# Altium footprint library BlocBatteries.PcbLib: 15 footprints
Each footprint in its own frame and in the unit in brackets; x right, y up, seen from the top. Pads: shape width x height; smd on the part's side, far side on the other; paste and mask are expansions set on the pad; w line width, h text height; cw(c..) or ccw(c..) is an arc to the next point about the centre after c.
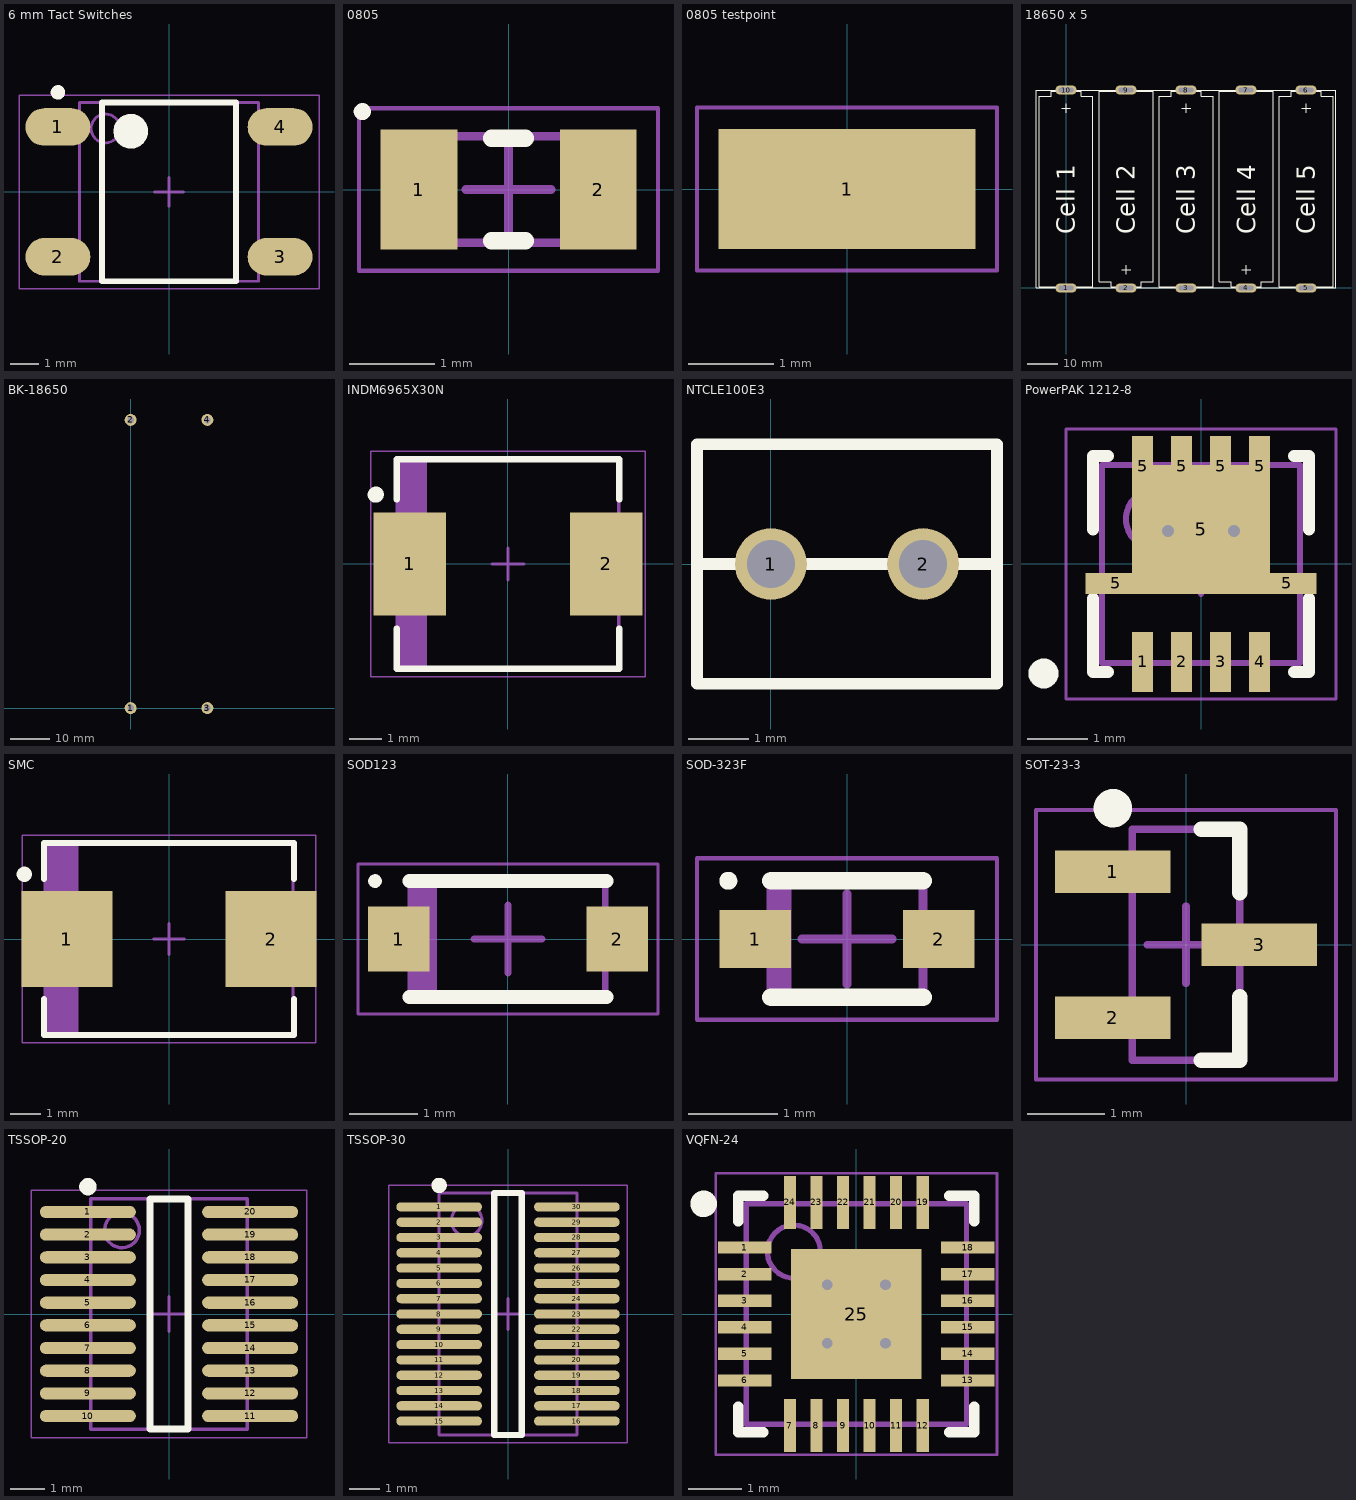
[diagram p0: the footprints below, top view; thin cyan lines are the x and y axes]

## 6 mm Tact Switches [mm] "SOP, 4-Leads, Body 6,20x6,20mm, Pitch 4,50mm, IPC Medium Density"
height 3.5
pads (4):
  oval 2.25x1.3 smd: 1(-3.85,2.25) 2(-3.85,-2.25) 3(3.85,-2.25) 4(3.85,2.25)
Top Overlay:
  circle w0.25: c-3.85,3.45 r0.125
  circle w0.6: c-1.325,2.1 r0.3
  lines w0.2: -2.325,-3.1 -2.325,3.1 2.325,3.1 2.325,-3.1 -2.325,-3.1
Mechanical 13:
  circle w0.1: c-2.2,2.2 r0.5
  lines w0.1: -3.1,-3.1 -3.1,3.1 3.1,3.1 3.1,-3.1 -3.1,-3.1
Mechanical 15:
  lines w0.05: -5.2,-3.35 -5.2,3.35 5.2,3.35 5.2,-3.35 -5.2,-3.35
  lines w0.1: -0.5,0 0.5,0 ; 0,-0.5 0,0.5
3D body: height 3.5, standoff 0.15, extent -3.1,-3.1 3.1,3.1

## 0805 [mm] "Chip Capacitor, 2-Leads, Body 2,00x1,25mm, IPC Medium Density"
height 0.8
pads (2):
  rect 0.9x1.4 smd: 1(-1.05,0) 2(1.05,0)
Top Overlay:
  circle w0.1: c-1.712,0.912 r0.05
  lines w0.2: -0.2,-0.6 0.2,-0.6 ; -0.2,0.6 0.2,0.6
Mechanical 13:
  lines w0.1: -1,-0.625 -1,0.625 1,0.625 1,-0.625 -1,-0.625
Mechanical 15:
  lines w0.05: -1.75,-0.95 -1.75,0.95 1.75,0.95 1.75,-0.95 -1.75,-0.95
  lines w0.1: -0.5,0 0.5,0 ; 0,-0.5 0,0.5
3D body: height 0.8, standoff 0, extent -0.6,-0.625 0.6,0.625
3D body: height 0.8, standoff 0, extent -1,-0.625 -0.6,0.625
3D body: height 0.8, standoff 0, extent 0.6,-0.625 1,0.625

## 0805 testpoint [mm] "Chip Capacitor, 2-Leads, Body 2,00x1,25mm, IPC Medium Density"
height 0.8
pads (1):
  rect 3x1.4 smd: 1(0,0)
Top Overlay:
  lines w0.2: -0.2,-0.6 0.2,-0.6 ; -0.2,0.6 0.2,0.6
Mechanical 13:
  lines w0.1: -1,-0.625 1,-0.625 1,0.625 -1,0.625 -1,-0.625
Mechanical 15:
  lines w0.05: -1.75,-0.95 1.75,-0.95 1.75,0.95 -1.75,0.95 -1.75,-0.95
  lines w0.1: -0.5,0 0.5,0 ; 0,-0.5 0,0.5
3D body: height 0.8, standoff 0, extent 0.6,-0.625 1,0.625
3D body: height 0.8, standoff 0, extent -1,-0.625 -0.6,0.625
3D body: height 0.8, standoff 0.6, extent -0.6,-0.625 0.6,0.625

## 18650 x 5 [mm] "5 cell 18650 li-ion batt"
height 22
pads (10):
  oval 7x3 hole 1.5 slot 5 at 0 deg: 1(0,0) 2(20,0) 3(40,0) 4(60,0) 5(80,0) 6(80,66) 7(60,66) 8(40,66) 9(20,66) 10(0,66)
Top Overlay:
  lines w0.2: -1.5,60 1.5,60 ; 0,58.5 0,61.5 ; 18.5,6 21.5,6 ; 20,4.5 20,7.5 ; 38.5,60 41.5,60 ; 40,58.5 40,61.5 ; 58.5,6 61.5,6 ; 60,4.5 60,7.5 ; 78.5,60 81.5,60 ; 80,58.5 80,61.5 ; -10,0 90,0 90,66 -10,66 -10,0 ; -9,0.5 -9,6.5 -9,64 -5,64 -5,65.5 5,65.5 5,64 9,64 9,0.5 -9,0.5 ; 11,2 11,65.5 29,65.5 29,59.5 29,2 25,2 25,0.5 15,0.5 15,2 11,2 ; 31,0.5 49,0.5 49,64 45,64 45,65.5 35,65.5 35,64 31,64 31,6.5 31,0.5 ; 51,2 51,65.5 69,65.5 69,59.5 69,2 65,2 65,0.5 55,0.5 55,2 51,2 ; 71,0.5 89,0.5 89,64 85,64 85,65.5 75,65.5 75,64 71,64 71,6.5 71,0.5
  text "Cell 5" at 83,18 h6
  text "Cell 4" at 63,18 h6
  text "Cell 3" at 43,18 h6
  text "Cell 2" at 23,18 h6
  text "Cell 1" at 3,18 h6
3D body: height 24.37, standoff 6.17, extent 70.9,0.35 89.1,65.5
3D body: height 24.37, standoff 6.17, extent 30.9,0.35 49.1,65.5
3D body: height 24.37, standoff 6.17, extent 50.9,0.5 69.1,65.65
3D body: height 24.37, standoff 6.17, extent 10.9,0.5 29.1,65.65
3D body: height 24.37, standoff 6.17, extent -9.1,0.35 9.1,65.5

## BK-18650 [mm] "2cell holder for 18650 li-ion batt"
height 22
pads (4):
  round 3 hole 1.7: 1(0,0) 2(0,72.5) 3(19.3,0) 4(19.3,72.5)
3D body: height 24.37, standoff 6.17, extent -8.929,2.858 9.271,68.008
3D body: height 24.37, standoff 6.17, extent 10.922,2.731 29.122,67.881
3D body: height 21, standoff 0, extent -10.594,-1.651 30.406,74.349

## INDM6965X30N [mm] "Molded Inductor, 2-Leads, Body 6,86x6,47mm, IPC Medium Density"
height 3
pads (2):
  rect 2.25x3.2 smd: 1(-3.05,0) 2(3.05,0)
Top Overlay:
  circle w0.25: c-4.1,2.15 r0.125
  lines w0.2: -3.45,-2 -3.45,-3.25 3.45,-3.25 3.45,-2 ; -3.45,2 -3.45,3.25 3.45,3.25 3.45,2
Mechanical 13:
  rectangle: -3.43,-3.235 -2.507,3.235
  lines w0.1: -3.43,-3.235 -3.43,3.235 3.43,3.235 3.43,-3.235 -3.43,-3.235
Mechanical 15:
  lines w0.05: -4.25,-3.5 -4.25,3.5 4.25,3.5 4.25,-3.5 -4.25,-3.5
  lines w0.1: -0.5,0 0.5,0 ; 0,-0.5 0,0.5
3D body: height 3, standoff 0, extent -3.43,-3.235 3.43,3.235

## NTCLE100E3 [mm]
pads (2):
  round 1.2 hole 0.8: 1(0,0) 2(2.54,0)
Top Overlay:
  lines w0.2: -1.235,0 1.34,0 ; 1.2,0 3.775,0 ; 3.775,0 3.775,2 -1.235,2 -1.235,-2 3.775,-2 3.775,0

## PowerPAK 1212-8 [mm] "QFN, 10-Leads, Body 3,30x3,30mm, Pitch 0,65mm, Thermal Pad 2,11x2,11mm, IPC Medium Density"
height 1.04
pads (11):
  rect 0.35x1 smd: 1(-0.975,-1.63) 2(-0.325,-1.63) 3(0.325,-1.63) 4(0.975,-1.63) 5(-0.975,1.63) 5(-0.325,1.63) 5(0.325,1.63) 5(0.975,1.63)
  rect 1x0.35 smd: 5(-1.425,-0.325) 5(1.425,-0.325)
  rect 2.3x2.15 smd: 5(0,0.575)
via -0.55,0.55 diameter 0.5 hole 0.2
via 0.55,0.55 diameter 0.5 hole 0.2
Top Overlay:
  circle w0.25: c-2.625,-1.825 r0.125
  lines w0.2: -1.8,-0.575 -1.8,-1.8 -1.55,-1.8 ; -1.8,0.575 -1.8,1.8 -1.55,1.8 ; 1.55,-1.8 1.8,-1.8 1.8,-0.575 ; 1.55,1.8 1.8,1.8 1.8,0.575
Mechanical 13:
  circle w0.1: c-0.75,0.75 r0.5
  lines w0.1: -1.65,-1.65 -1.65,1.65 1.65,1.65 1.65,-1.65 -1.65,-1.65
Mechanical 15:
  lines w0.05: -2.25,-2.25 -2.25,2.25 2.25,2.25 2.25,-2.25 -2.25,-2.25
  lines w0.1: -0.5,0 0.5,0 ; 0,-0.5 0,0.5
3D body: height 1.04, standoff 0.05, extent -1.65,-1.65 1.65,1.65

## SMC [mm] "Molded Diode, 2-Leads, Body 7,95x5,90mm, IPC Medium Density"
height 2.45
pads (2):
  rect 3x3.15 smd: 1(-3.35,0) 2(3.35,0)
Top Overlay:
  circle w0.25: c-4.75,2.125 r0.125
  lines w0.2: -4.1,-1.975 -4.1,-3.15 4.1,-3.15 4.1,-1.975 ; -4.1,1.975 -4.1,3.15 4.1,3.15 4.1,1.975
Mechanical 13:
  rectangle: -4.075,-3.125 -2.979,3.125
  lines w0.1: -4.075,-3.125 -4.075,3.125 4.075,3.125 4.075,-3.125 -4.075,-3.125
Mechanical 15:
  lines w0.05: -4.825,-3.4 -4.825,3.4 4.825,3.4 4.825,-3.4 -4.825,-3.4
  lines w0.1: -0.5,0 0.5,0 ; 0,-0.5 0,0.5
3D body: height 2.45, standoff 0, extent -4.075,-3.125 4.075,3.125

## SOD123 [mm] "Molded Diode, 2-Leads, Body 2,70x1,55mm, IPC Medium Density"
height 1.45
pads (2):
  rect 0.9x0.95 smd: 1(-1.6,0) 2(1.6,0)
Top Overlay:
  circle w0.1: c-1.95,0.85 r0.05
  lines w0.2: -1.45,-0.85 1.45,-0.85 ; -1.45,0.85 1.45,0.85
Mechanical 13:
  rectangle: -1.425,-0.85 -1.042,0.85
  lines w0.1: -1.425,-0.85 1.425,-0.85 1.425,0.85 -1.425,0.85 -1.425,-0.85
Mechanical 15:
  lines w0.05: -2.2,-1.1 2.2,-1.1 2.2,1.1 -2.2,1.1 -2.2,-1.1
  lines w0.1: -0.5,0 0.5,0 ; 0,-0.5 0,0.5
3D body: height 1.45, standoff 0, extent -1.425,-0.85 1.425,0.85

## SOD-323F [mm] "Molded Diode, 2-Leads, Body 1,70x1,25mm, IPC Medium Density"
height 0.7
pads (2):
  rect 0.8x0.65 smd: 1(-1.025,0) 2(1.025,0)
Top Overlay:
  circle w0.1: c-1.325,0.65 r0.05
  lines w0.2: -0.85,-0.65 0.85,-0.65 ; -0.85,0.65 0.85,0.65
Mechanical 13:
  rectangle: -0.85,-0.625 -0.621,0.625
  lines w0.1: -0.85,-0.625 -0.85,0.625 0.85,0.625 0.85,-0.625 -0.85,-0.625
Mechanical 15:
  lines w0.05: -1.675,-0.9 -1.675,0.9 1.675,0.9 1.675,-0.9 -1.675,-0.9
  lines w0.1: -0.5,0 0.5,0 ; 0,-0.5 0,0.5
3D body: height 0.7, standoff 0, extent -0.85,-0.625 0.85,0.625

## SOT-23-3 [mm] "SOT23, 3-Leads, Body 2,90x2,45mm, Pitch 0,95mm, IPC Medium Density"
height 1.1
pads (3):
  rect 1.5x0.55 smd: 1(-0.95,0.95) 2(-0.95,-0.95) 3(0.95,0)
Top Overlay:
  circle w0.25: c-0.95,1.775 r0.125
  lines w0.2: 0.2,-1.5 0.7,-1.5 0.7,-0.675 ; 0.2,1.5 0.7,1.5 0.7,0.675
Mechanical 13:
  lines w0.1: -0.7,-1.5 0.7,-1.5 0.7,1.5 -0.7,1.5 -0.7,-1.5
Mechanical 15:
  lines w0.05: -1.95,-1.75 1.95,-1.75 1.95,1.75 -1.95,1.75 -1.95,-1.75
  lines w0.1: -0.5,0 0.5,0 ; 0,-0.5 0,0.5
3D body: height 1.1, standoff 0.05, extent -0.7,-1.5 0.7,1.5

## TSSOP-20 [mm] "TSOP, 20-Leads, Body 6,50x4,40mm, Pitch 0,65mm, IPC Medium Density"
height 1.2
pads (20):
  oval 2.75x0.35 smd: 1(-2.325,2.925) 2(-2.325,2.275) 3(-2.325,1.625) 4(-2.325,0.975) 5(-2.325,0.325) 6(-2.325,-0.325) 7(-2.325,-0.975) 8(-2.325,-1.625) 9(-2.325,-2.275) 10(-2.325,-2.925) 11(2.325,-2.925) 12(2.325,-2.275) 13(2.325,-1.625) 14(2.325,-0.975) 15(2.325,-0.325) 16(2.325,0.325) 17(2.325,0.975) 18(2.325,1.625) 19(2.325,2.275) 20(2.325,2.925)
Top Overlay:
  circle w0.25: c-2.325,3.65 r0.125
  lines w0.2: -0.55,-3.3 0.55,-3.3 0.55,3.3 -0.55,3.3 -0.55,-3.3
Mechanical 13:
  circle w0.1: c-1.35,2.4 r0.5
  lines w0.1: -2.25,-3.3 2.25,-3.3 2.25,3.3 -2.25,3.3 -2.25,-3.3
Mechanical 15:
  lines w0.05: -3.95,-3.55 3.95,-3.55 3.95,3.55 -3.95,3.55 -3.95,-3.55
  lines w0.1: -0.5,0 0.5,0 ; 0,-0.5 0,0.5
3D body: height 1.2, standoff 0.15, extent -2.25,-3.3 2.25,3.3

## TSSOP-30 [mm] "TSSOP, 30-Leads, Body 7,80x4,40mm, Pitch 0,50mm, IPC Medium Density"
height 1.2
pads (30):
  oval 2.8x0.3 smd: 1(-2.25,3.5) 2(-2.25,3) 3(-2.25,2.5) 4(-2.25,2) 5(-2.25,1.5) 6(-2.25,1) 7(-2.25,0.5) 8(-2.25,0) 9(-2.25,-0.5) 10(-2.25,-1) 11(-2.25,-1.5) 12(-2.25,-2) 13(-2.25,-2.5) 14(-2.25,-3) 15(-2.25,-3.5) 16(2.25,-3.5) 17(2.25,-3) 18(2.25,-2.5) 19(2.25,-2) 20(2.25,-1.5) 21(2.25,-1) 22(2.25,-0.5) 23(2.25,0) 24(2.25,0.5) 25(2.25,1) 26(2.25,1.5) 27(2.25,2) 28(2.25,2.5) 29(2.25,3) 30(2.25,3.5)
Top Overlay:
  circle w0.25: c-2.25,4.2 r0.125
  lines w0.2: -0.45,-3.95 -0.45,3.95 0.45,3.95 0.45,-3.95 -0.45,-3.95
Mechanical 13:
  circle w0.1: c-1.35,3.05 r0.5
  lines w0.1: -2.25,-3.95 -2.25,3.95 2.25,3.95 2.25,-3.95 -2.25,-3.95
Mechanical 15:
  lines w0.05: -3.9,-4.2 -3.9,4.2 3.9,4.2 3.9,-4.2 -3.9,-4.2
  lines w0.1: -0.5,0 0.5,0 ; 0,-0.5 0,0.5
3D body: height 1.2, standoff 0.15, extent -2.25,-3.95 2.25,3.95

## VQFN-24 [mm] "QFN, 24-Leads, Body 4,00x4,00mm, Pitch 0,50mm, Thermal Pad 2,45x2,45mm, IPC Medium Density"
height 0.8
pads (25):
  rect 1x0.23 smd: 1(-2.1,1.25) 2(-2.1,0.75) 3(-2.1,0.25) 4(-2.1,-0.25) 5(-2.1,-0.75) 6(-2.1,-1.25) 13(2.1,-1.25) 14(2.1,-0.75) 15(2.1,-0.25) 16(2.1,0.25) 17(2.1,0.75) 18(2.1,1.25)
  rect 0.23x1 smd: 7(-1.25,-2.1) 8(-0.75,-2.1) 9(-0.25,-2.1) 10(0.25,-2.1) 11(0.75,-2.1) 12(1.25,-2.1) 19(1.25,2.1) 20(0.75,2.1) 21(0.25,2.1) 22(-0.25,2.1) 23(-0.75,2.1) 24(-1.25,2.1)
  rect 2.45x2.45 smd: 25(0,0)
via 0.55,-0.55 diameter 0.5 hole 0.2
via -0.55,-0.55 diameter 0.5 hole 0.2
via 0.55,0.55 diameter 0.5 hole 0.2
via -0.55,0.55 diameter 0.5 hole 0.2
Top Overlay:
  circle w0.25: c-2.875,2.075 r0.125
  lines w0.2: -2.225,-1.75 -2.225,-2.225 -1.75,-2.225 ; -2.225,1.75 -2.225,2.225 -1.75,2.225 ; 1.75,-2.225 2.225,-2.225 2.225,-1.75 ; 1.75,2.225 2.225,2.225 2.225,1.75
Mechanical 13:
  circle w0.1: c-1.175,1.175 r0.5
  lines w0.1: -2.075,-2.075 2.075,-2.075 2.075,2.075 -2.075,2.075 -2.075,-2.075
Mechanical 15:
  lines w0.05: -2.65,-2.65 2.65,-2.65 2.65,2.65 -2.65,2.65 -2.65,-2.65
  lines w0.1: -0.5,0 0.5,0 ; 0,-0.5 0,0.5
3D body: height 0.8, standoff 0.01, extent -2.075,-2.075 2.075,2.075